# Altium schematic symbol library inductor-0805.SchLib: 1 symbol
Pins are listed as number, name and electrical type; pins without a type are passive.

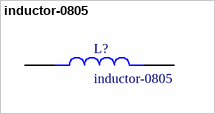
[diagram p0: symbol inductor-0805]

## inductor-0805
designator L?
footprint inductor-0805
pins: 1, 2